# EAGLE library part TS3004ITD1033T (library TS3004ITD1033T)
None
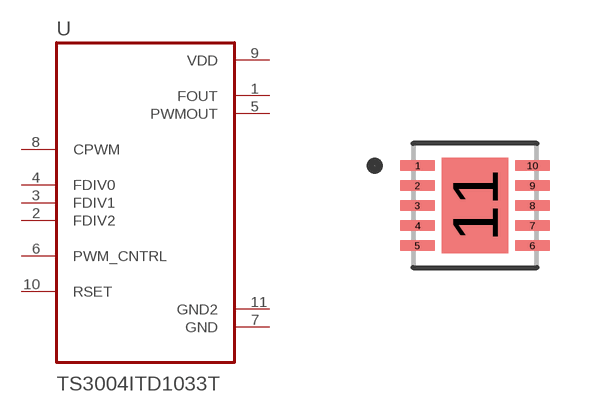
[diagram p0: symbol with the pads of SON50P300X300X80-11N; footprint SON50P300X300X80-11N]

Designator prefix U

## TS3004ITD1033T (AVAILABILITY: Unavailable; DESCRIPTION: Programmable Timer Single 10-Pin DFN EP T/R; MF: Silicon Labs; MP: TS3004ITD1033T; PACKAGE: TDFN-10 Silicon Labs; PRICE: None)  [SON50P300X300X80-11N]
1  FOUT  out
2  FDIV2
3  FDIV1
4  FDIV0
5  PWMOUT  out
6  PWM_CNTRL
7  GND  pwr
8  CPWM
9  VDD  pwr
10  RSET
11  GND2

## Footprint SON50P300X300X80-11N (pad centres in mm)
smd 0.86 x 0.27: 1 -1.435,1; 2 -1.435,0.5; 3 -1.435,0; 4 -1.435,-0.5; 5 -1.435,-1; 6 1.435,-1; 7 1.435,-0.5; 8 1.435,0; 9 1.435,0.5; 10 1.435,1
smd 1.65 x 2.38: 11 0,0